# Altium schematic symbol library 691 313 410 0xx.SchLib: 6 symbols
Pins are listed as number, name and electrical type; pins without a type are passive.

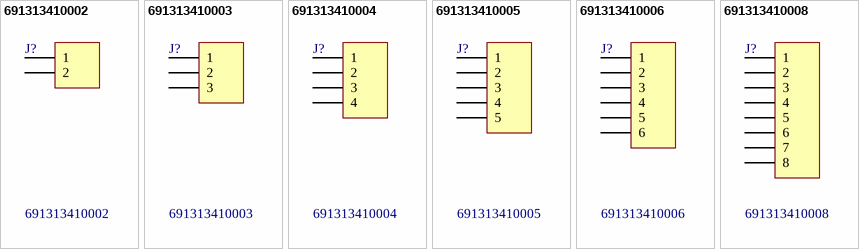
[diagram p0: symbols 691313410002 to 691313410008]

## 691313410002
designator J?
WR-TBL Terminal Blocks Serie 3134 - 7.62 mm; Manufacturer: Würth Elektronik eiSos GmbH; ComponentLink1 Description: Manufacturer; ComponentLink2 Description: Datasheet; NoPins: 02; Created Date: 09 April 2014; partNo: 691313410002; ComponentLink1URL: http://www.we-online.com; ComponentLink2URL: http://katalog.we-online.de/em/datasheet/6913134100xx.pdf; Created by: Karrer Zheng
footprint 691313410002 (7.62 mm - Closed Horizonal PCB Header - 2p)
pins: 1, 2

## 691313410003
designator J?
WR-TBL Terminal Blocks Serie 3134 - 7.62 mm; Manufacturer: Würth Elektronik eiSos GmbH; ComponentLink1 Description: Manufacturer; ComponentLink2 Description: Datasheet; NoPins: 03; Created Date: 09 April 2014; partNo: 691313410003; ComponentLink1URL: http://www.we-online.com; ComponentLink2URL: http://katalog.we-online.de/em/datasheet/6913134100xx.pdf; Created by: Karrer Zheng
footprint 691313410003 (7.62 mm - Closed Horizonal PCB Header - 3p)
pins: 1, 2, 3

## 691313410004
designator J?
WR-TBL Terminal Blocks Serie 3134 - 7.62 mm; Manufacturer: Würth Elektronik eiSos GmbH; ComponentLink1 Description: Manufacturer; ComponentLink2 Description: Datasheet; NoPins: 04; Created Date: 09 April 2014; partNo: 691313410004; ComponentLink1URL: http://www.we-online.com; ComponentLink2URL: http://katalog.we-online.de/em/datasheet/6913134100xx.pdf; Created by: Karrer Zheng
footprint 691313410004 (7.62 mm - Closed Horizonal PCB Header - 4p)
pins: 1, 2, 3, 4

## 691313410005
designator J?
WR-TBL Terminal Blocks Serie 3134 - 7.62 mm; Manufacturer: Würth Elektronik eiSos GmbH; ComponentLink1 Description: Manufacturer; ComponentLink2 Description: Datasheet; NoPins: 05; Created Date: 09 April 2014; partNo: 691313410005; ComponentLink1URL: http://www.we-online.com; ComponentLink2URL: http://katalog.we-online.de/em/datasheet/6913134100xx.pdf; Created by: Karrer Zheng
footprint 691313410005 (7.62 mm - Closed Horizonal PCB Header - 5p)
pins: 1, 2, 3, 4, 5

## 691313410006
designator J?
WR-TBL Terminal Blocks Serie 3134 - 7.62 mm; Manufacturer: Würth Elektronik eiSos GmbH; ComponentLink1 Description: Manufacturer; ComponentLink2 Description: Datasheet; NoPins: 06; Created Date: 09 April 2014; partNo: 691313410006; ComponentLink1URL: http://www.we-online.com; ComponentLink2URL: http://katalog.we-online.de/em/datasheet/6913134100xx.pdf; Created by: Karrer Zheng
footprint 691313410006 (7.62 mm - Closed Horizonal PCB Header - 6p)
pins: 1, 2, 3, 4, 5, 6

## 691313410008
designator J?
WR-TBL Terminal Blocks Serie 3134 - 7.62 mm; Manufacturer: Würth Elektronik eiSos GmbH; ComponentLink1 Description: Manufacturer; ComponentLink2 Description: Datasheet; NoPins: 08; Created Date: 09 April 2014; partNo: 691313410008; ComponentLink1URL: http://www.we-online.com; ComponentLink2URL: http://katalog.we-online.de/em/datasheet/6913134100xx.pdf; Created by: Karrer Zheng
footprint 691313410008 (7.62 mm - Closed Horizonal PCB Header - 8p)
pins: 1, 2, 3, 4, 5, 6, 7, 8